# EAGLE library part CORE4071 (library robot_insa_V1)
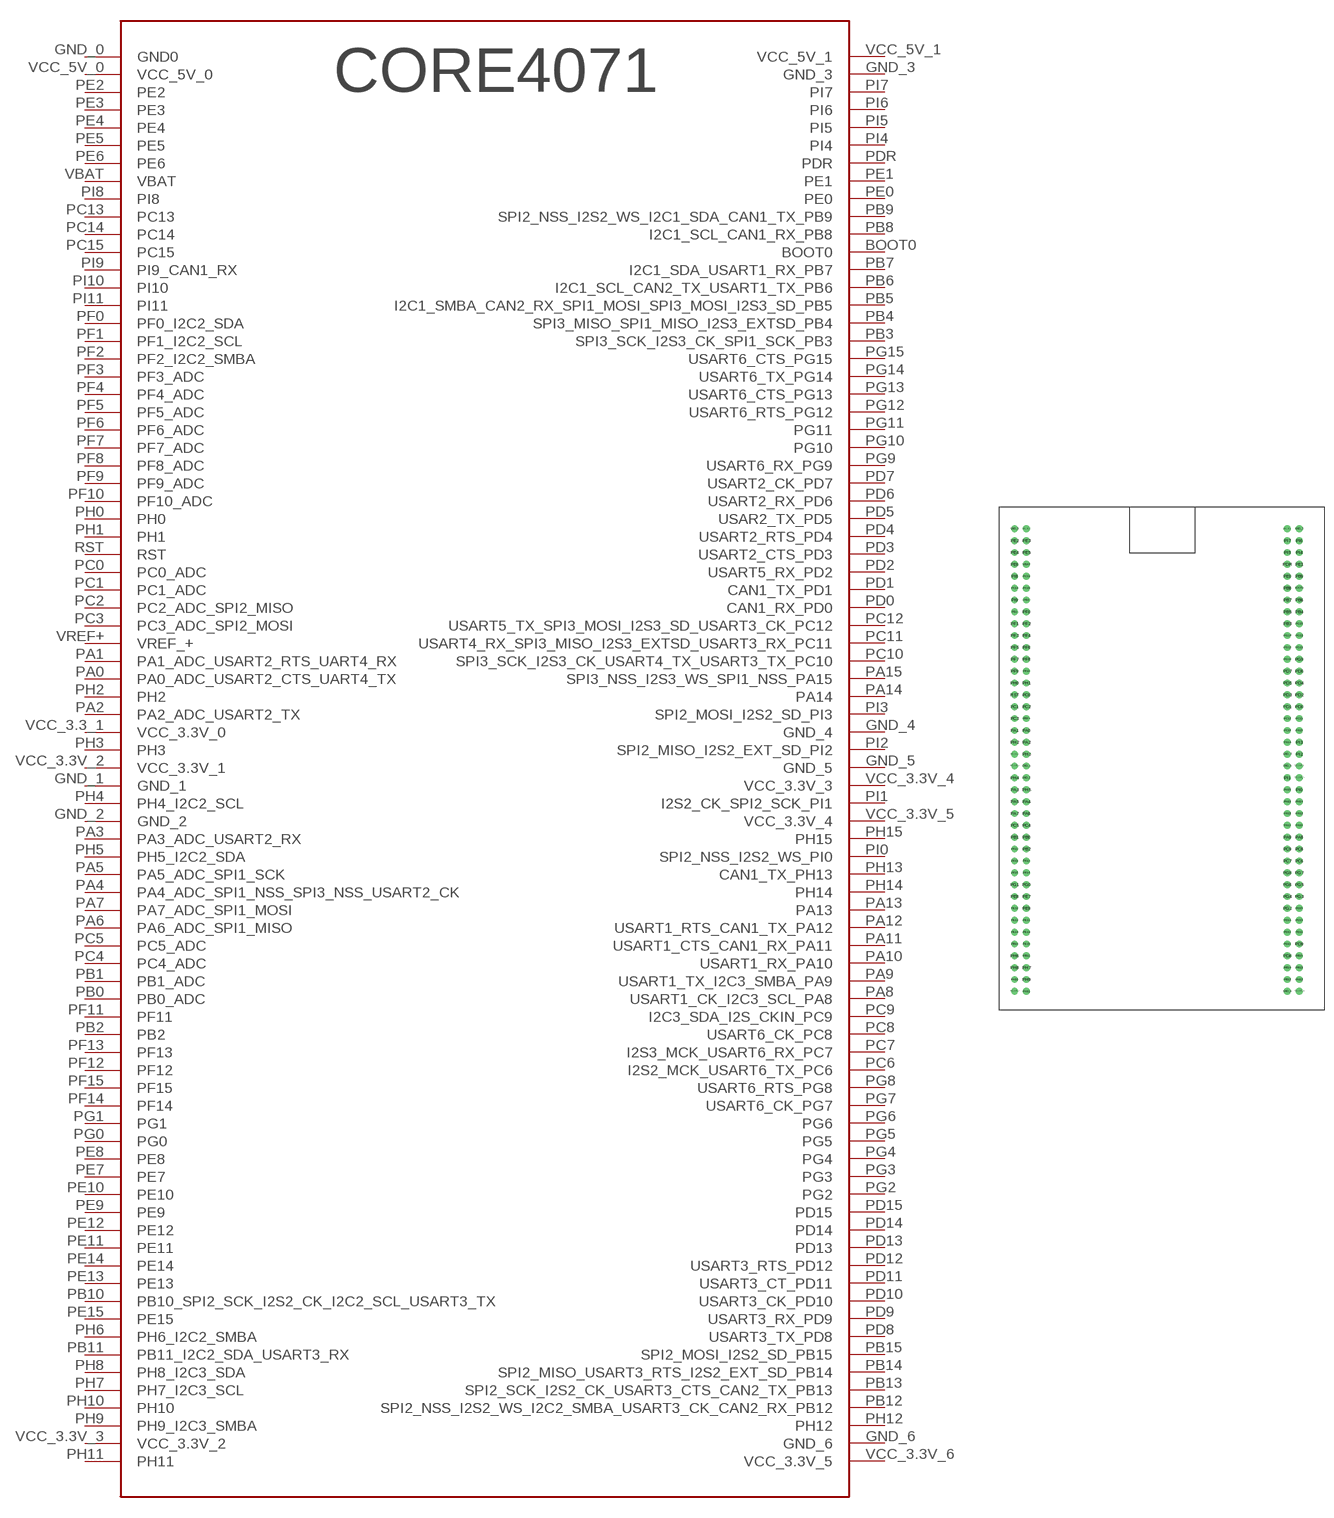
[diagram p0: symbol with the pads of CORE4071; footprint CORE4071]

Designator prefix -

## CORE4071  [CORE4071]
BOOT0  BOOT0
GND_0  GND0  pwr
GND_1  GND_1
GND_2  GND_2  pwr
GND_3  GND_3  pwr
GND_4  GND_4  pwr
GND_5  GND_5  pwr
GND_6  GND_6  pwr
PA0  PA0_ADC_USART2_CTS_UART4_TX
PA1  PA1_ADC_USART2_RTS_UART4_RX
PA2  PA2_ADC_USART2_TX
PA3  PA3_ADC_USART2_RX
PA4  PA4_ADC_SPI1_NSS_SPI3_NSS_USART2_CK
PA5  PA5_ADC_SPI1_SCK
PA6  PA6_ADC_SPI1_MISO
PA7  PA7_ADC_SPI1_MOSI
PA8  USART1_CK_I2C3_SCL_PA8
PA9  USART1_TX_I2C3_SMBA_PA9
PA10  USART1_RX_PA10
PA11  USART1_CTS_CAN1_RX_PA11
PA12  USART1_RTS_CAN1_TX_PA12
PA13  PA13
PA14  PA14
PA15  SPI3_NSS_I2S3_WS_SPI1_NSS_PA15
PB0  PB0_ADC
PB1  PB1_ADC
PB2  PB2
PB3  SPI3_SCK_I2S3_CK_SPI1_SCK_PB3
PB4  SPI3_MISO_SPI1_MISO_I2S3_EXTSD_PB4
PB5  I2C1_SMBA_CAN2_RX_SPI1_MOSI_SPI3_MOSI_I2S3_SD_PB5
PB6  I2C1_SCL_CAN2_TX_USART1_TX_PB6
PB7  I2C1_SDA_USART1_RX_PB7
PB8  I2C1_SCL_CAN1_RX_PB8
PB9  SPI2_NSS_I2S2_WS_I2C1_SDA_CAN1_TX_PB9
PB10  PB10_SPI2_SCK_I2S2_CK_I2C2_SCL_USART3_TX
PB11  PB11_I2C2_SDA_USART3_RX
PB12  SPI2_NSS_I2S2_WS_I2C2_SMBA_USART3_CK_CAN2_RX_PB12
PB13  SPI2_SCK_I2S2_CK_USART3_CTS_CAN2_TX_PB13
PB14  SPI2_MISO_USART3_RTS_I2S2_EXT_SD_PB14
PB15  SPI2_MOSI_I2S2_SD_PB15
PC0  PC0_ADC
PC1  PC1_ADC
PC2  PC2_ADC_SPI2_MISO
PC3  PC3_ADC_SPI2_MOSI
PC4  PC4_ADC
PC5  PC5_ADC
PC6  I2S2_MCK_USART6_TX_PC6
PC7  I2S3_MCK_USART6_RX_PC7
PC8  USART6_CK_PC8
PC9  I2C3_SDA_I2S_CKIN_PC9
PC10  SPI3_SCK_I2S3_CK_USART4_TX_USART3_TX_PC10
PC11  USART4_RX_SPI3_MISO_I2S3_EXTSD_USART3_RX_PC11
PC12  USART5_TX_SPI3_MOSI_I2S3_SD_USART3_CK_PC12
PC13  PC13
PC14  PC14
PC15  PC15
PD0  CAN1_RX_PD0
PD1  CAN1_TX_PD1
PD2  USART5_RX_PD2
PD3  USART2_CTS_PD3
PD4  USART2_RTS_PD4
PD5  USAR2_TX_PD5
PD6  USART2_RX_PD6
PD7  USART2_CK_PD7
PD8  USART3_TX_PD8
PD9  USART3_RX_PD9
PD10  USART3_CK_PD10
PD11  USART3_CT_PD11
PD12  USART3_RTS_PD12
PD13  PD13
PD14  PD14
PD15  PD15
PDR  PDR
PE0  PE0
PE1  PE1
PE2  PE2
PE3  PE3
PE4  PE4
PE5  PE5
PE6  PE6
PE7  PE7
PE8  PE8
PE9  PE9
PE10  PE10
PE11  PE11
PE12  PE12
PE13  PE13
PE14  PE14
PE15  PE15
PF0  PF0_I2C2_SDA
PF1  PF1_I2C2_SCL
PF2  PF2_I2C2_SMBA
PF3  PF3_ADC
PF4  PF4_ADC
PF5  PF5_ADC
PF6  PF6_ADC
PF7  PF7_ADC
PF8  PF8_ADC
PF9  PF9_ADC
PF10  PF10_ADC
PF11  PF11
PF12  PF12
PF13  PF13
PF14  PF14
PF15  PF15
PG0  PG0
PG1  PG1
PG2  PG2
PG3  PG3
PG4  PG4
PG5  PG5
PG6  PG6
PG7  USART6_CK_PG7
PG8  USART6_RTS_PG8
PG9  USART6_RX_PG9
PG10  PG10
PG11  PG11
PG12  USART6_RTS_PG12
PG13  USART6_CTS_PG13
PG14  USART6_TX_PG14
PG15  USART6_CTS_PG15
PH0  PH0
PH1  PH1
PH2  PH2
PH3  PH3
PH4  PH4_I2C2_SCL
PH5  PH5_I2C2_SDA
PH6  PH6_I2C2_SMBA
PH7  PH7_I2C3_SCL
PH8  PH8_I2C3_SDA
PH9  PH9_I2C3_SMBA
PH10  PH10
PH11  PH11
PH12  PH12
PH13  CAN1_TX_PH13
PH14  PH14
PH15  PH15
PI0  SPI2_NSS_I2S2_WS_PI0
PI1  I2S2_CK_SPI2_SCK_PI1
PI2  SPI2_MISO_I2S2_EXT_SD_PI2
PI3  SPI2_MOSI_I2S2_SD_PI3
PI4  PI4
PI5  PI5
PI6  PI6
PI7  PI7
PI8  PI8
PI9  PI9_CAN1_RX
PI10  PI10
PI11  PI11
RST  RST  in
VBAT  VBAT  pas
VCC_3.3_1  VCC_3.3V_0  pwr
VCC_3.3V_2  VCC_3.3V_1  pwr
VCC_3.3V_3  VCC_3.3V_2  pwr
VCC_3.3V_4  VCC_3.3V_3  pwr
VCC_3.3V_5  VCC_3.3V_4  pwr
VCC_3.3V_6  VCC_3.3V_5  pwr
VCC_5V_0  VCC_5V_0  pwr
VCC_5V_1  VCC_5V_1  pwr
VREF+  VREF_+

## Footprint CORE4071 (pad centres in mm)
drill 0.5 pad 1.15: BOOT0 23.16,28; GND_0 -24.85,38; GND_1 -22.85,-2; GND_2 -22.85,-4; GND_3 23.16,38; GND_4 21.16,0; GND_5 21.16,-2; GND_6 21.16,-40; PA0 -22.85,4; PA1 -24.85,4; PA2 -22.85,2; PA3 -24.85,-6; PA4 -22.85,-8; PA5 -24.85,-8; PA6 -22.85,-10; PA7 -24.85,-10; PA8 23.16,-14; PA9 21.16,-14; PA10 23.16,-12; PA11 21.16,-12; PA12 23.16,-10; PA13 21.16,-10; PA14 21.16,2; PA15 23.16,4; PB0 -22.85,-14; PB1 -24.85,-14; PB2 -22.85,-16; PB3 21.16,22; PB4 23.16,24; PB5 21.16,24; PB6 23.16,26; PB7 21.16,26; PB8 21.16,28; PB9 23.16,30; PB10 -24.85,-32; PB11 -22.85,-34; PB12 21.16,-38; PB13 23.16,-36; PB14 21.16,-36; PB15 23.16,-34; PC0 -22.85,10; PC1 -24.85,8; PC2 -22.85,8; PC3 -24.85,6; PC4 -22.85,-12; PC5 -24.85,-12; PC6 23.16,-18; PC7 21.16,-18; PC8 23.16,-16; PC9 21.16,-16; PC10 21.16,4; PC11 23.16,6; PC12 21.16,6; PC13 -22.85,30; PC14 -24.85,28; PC15 -22.85,28; PD0 23.16,8; PD1 21.16,8; PD2 23.16,10; PD3 21.16,10; PD4 23.16,12; PD5 21.16,12; PD6 23.16,14; PD7 21.16,14; PD8 21.16,-34; PD9 23.16,-32; PD10 21.16,-32; PD11 23.16,-30; PD12 21.16,-30; PD13 23.16,-28; PD14 21.16,-28; PD15 23.16,-26; PDR 21.16,32; PE0 21.16,30; PE1 23.16,32; PE2 -24.85,36; PE3 -22.85,36; PE4 -24.85,34; PE5 -22.85,34; PE6 -24.85,32; PE7 -22.85,-24; PE8 -24.85,-24; PE9 -22.85,-26; PE10 -24.85,-26; PE11 -22.85,-28; PE12 -24.85,-28; PE13 -22.85,-30; PE14 -24.85,-30; PE15 -22.85,-32; PF0 -22.85,24; PF1 -24.85,22; PF2 -22.85,22; PF3 -24.85,20; PF4 -22.85,20; PF5 -24.85,18; PF6 -22.85,18; PF7 -24.85,16; PF8 -22.85,16; PF9 -24.85,14; PF10 -22.85,14; PF11 -24.85,-16; PF12 -22.85,-18; PF13 -24.85,-18; PF14 -22.85,-20; PF15 -24.85,-20; PG0 -22.85,-22; PG1 -24.85,-22; PG2 21.16,-26; PG3 23.16,-24; PG4 21.16,-24; PG5 23.16,-22; PG6 21.16,-22; PG7 23.16,-20; PG8 21.16,-20; PG9 23.16,16; PG10 21.16,16; PG11 23.16,18; PG12 21.16,18; PG13 23.16,20; PG14 21.16,20; PG15 23.16,22; PH0 -24.85,12; PH1 -22.85,12; PH2 -24.85,2; PH3 -22.85,0; PH4 -24.85,-4; PH5 -22.85,-6; PH6 -24.85,-34; PH7 -22.85,-36; PH8 -24.85,-36; PH9 -22.85,-38; PH10 -24.85,-38; PH11 -22.85,-40; PH12 23.16,-38; PH13 21.16,-8; PH14 23.16,-8; PH15 21.16,-6; PI0 23.16,-6; PI1 21.16,-4; PI2 23.16,0; PI3 23.16,2; PI4 23.16,34; PI5 21.16,34; PI6 23.16,36; PI7 21.16,36; PI8 -24.85,30; PI9 -24.85,26; PI10 -22.85,26; PI11 -24.85,24; RST -24.85,10; VBAT -22.85,32; VCC_3.3_1 -24.85,0; VCC_3.3V_2 -24.85,-2; VCC_3.3V_3 -24.85,-40; VCC_3.3V_4 23.16,-2; VCC_3.3V_5 23.16,-4; VCC_3.3V_6 23.16,-40; VCC_5V_0 -22.85,38; VCC_5V_1 21.16,38; VREF+ -22.85,6